# Altium schematic symbol library Capacitors - Ceramic - 01005.SchLib: 571 symbols (part 1 of 13)
Pins are listed as number, name and electrical type; pins without a type are passive.

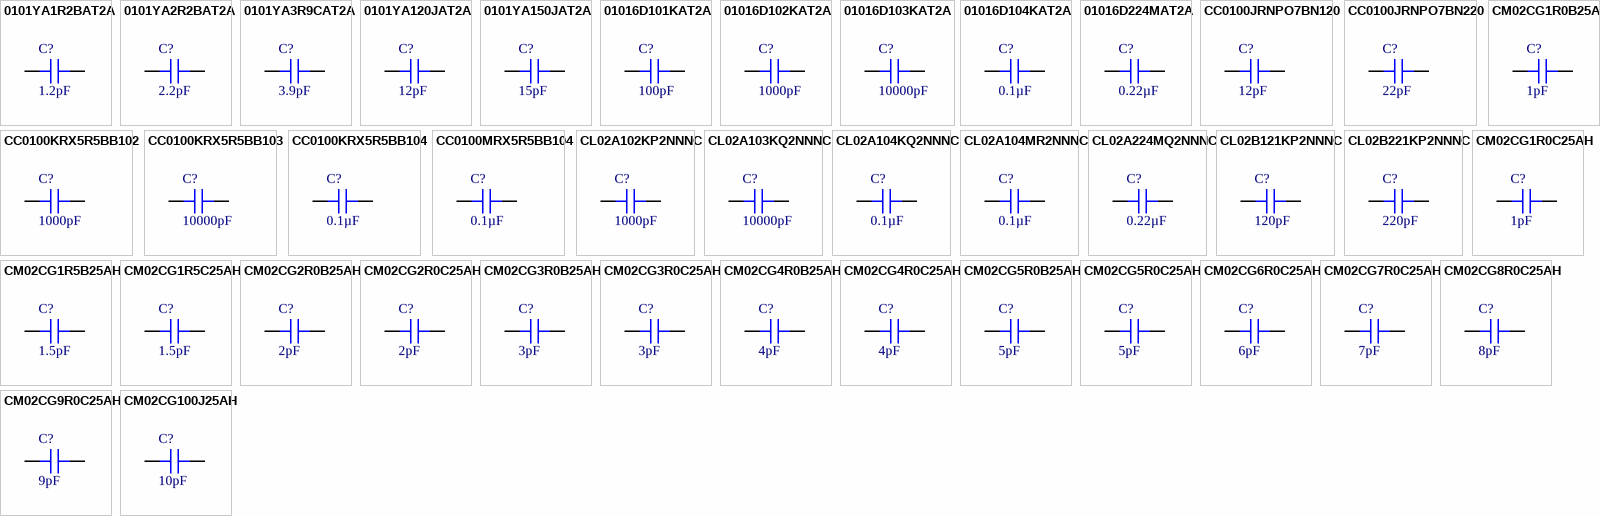
[diagram p0: symbols 0101YA1R2BAT2A to CM02CG100J25AH]

## 0101YA1R2BAT2A
designator C?, comment 1.2pF
CAP CER 1.2PF 16V C0G/NP0 01005; Part Number: 0101YA1R2BAT2A; Manufacturer: AVX Corporation; Temperature Coefficient: C0G, NP0; Tolerance: ±0.1pF; Applications: General Purpose; Capacitance: 1.2pF; ComponentLink1Description: Datasheet; ComponentLink1URL: http://datasheets.avx.com/C0GNP0-Dielectric.pdf; ComponentLink2Description: DigiKey Link; ComponentLink2URL: http://digikey.com/product-detail/en/avx-corporation/0101YA1R2BAT2A/478-6441-1-ND/2521897; Device Package: 01005 (0402 Metric); LastUpdated: 9/2/2020 1:27:43 AM; Lifecycle Status: Active; Minimum Order: 1; Mounting Type: Surface Mount, MLCC; Operating Temperature: -55°C ~ 125°C; Package / Case: 01005 (0402 Metric); Packaging: TapeAndReel; Part Status: Active; Price: 0.08; Series: -; Size / Dimension: 0.016" L x 0.008" W (0.40mm x 0.20mm); Supplier 1: DigiKey; Supplier Part Number 1: 478-6441-1-ND; Thickness (Max): 0.009" (0.22mm); Voltage - Rated: 16V; Value: 1.2pF
footprint CAP 01005_0402
pins: 1, 2

## 0101YA2R2BAT2A
designator C?, comment 2.2pF
CAP CER 2.2PF 16V C0G/NP0 01005; Part Number: 0101YA2R2BAT2A; Manufacturer: AVX Corporation; Temperature Coefficient: C0G, NP0; Tolerance: ±0.1pF; Applications: General Purpose; Capacitance: 2.2pF; ComponentLink1Description: Datasheet; ComponentLink1URL: http://datasheets.avx.com/C0GNP0-Dielectric.pdf; ComponentLink2Description: DigiKey Link; ComponentLink2URL: http://digikey.com/product-detail/en/avx-corporation/0101YA2R2BAT2A/478-6442-1-ND/2521898; Device Package: 01005 (0402 Metric); LastUpdated: 9/2/2020 1:27:42 AM; Lifecycle Status: Active; Minimum Order: 1; Mounting Type: Surface Mount, MLCC; Operating Temperature: -55°C ~ 125°C; Package / Case: 01005 (0402 Metric); Packaging: TapeAndReel; Part Status: Active; Price: 0.08; Series: -; Size / Dimension: 0.016" L x 0.008" W (0.40mm x 0.20mm); Supplier 1: DigiKey; Supplier Part Number 1: 478-6442-1-ND; Thickness (Max): 0.009" (0.22mm); Voltage - Rated: 16V; Value: 2.2pF
footprint CAP 01005_0402
pins: 1, 2

## 0101YA3R9CAT2A
designator C?, comment 3.9pF
CAP CER 3.9PF 16V C0G/NP0 01005; Part Number: 0101YA3R9CAT2A; Manufacturer: AVX Corporation; Temperature Coefficient: C0G, NP0; Tolerance: ±0.25pF; Value: 3.9pF; Applications: General Purpose; Capacitance: 3.9pF; ComponentLink1Description: Datasheet; ComponentLink1URL: http://datasheets.avx.com/C0GNP0-Dielectric.pdf; ComponentLink2Description: DigiKey Link; ComponentLink2URL: http://digikey.com/product-detail/en/avx-corporation/0101YA3R9CAT2A/478-6444-1-ND/2521900; Device Package: 01005 (0402 Metric); LastUpdated: 9/2/2020 1:27:44 AM; Lifecycle Status: Active; Minimum Order: 1; Mounting Type: Surface Mount, MLCC; Operating Temperature: -55°C ~ 125°C; Package / Case: 01005 (0402 Metric); Packaging: TapeAndReel; Part Status: Active; Price: 0.06; Series: -; Size / Dimension: 0.016" L x 0.008" W (0.40mm x 0.20mm); Supplier 1: DigiKey; Supplier Part Number 1: 478-6444-1-ND; Thickness (Max): 0.009" (0.22mm); Voltage - Rated: 16V
footprint CAP 01005_0402
pins: 1, 2

## 0101YA120JAT2A
designator C?, comment 12pF
CAP CER 12PF 16V C0G/NP0 01005; Part Number: 0101YA120JAT2A; Manufacturer: AVX Corporation; Temperature Coefficient: C0G, NP0; Tolerance: ±5%; Value: 12pF; Applications: General Purpose; Capacitance: 12pF; ComponentLink1Description: Datasheet; ComponentLink1URL: http://datasheets.avx.com/C0GNP0-Dielectric.pdf; ComponentLink2Description: DigiKey Link; ComponentLink2URL: http://digikey.com/product-detail/en/avx-corporation/0101YA120JAT2A/478-6439-1-ND/2521895; Device Package: 01005 (0402 Metric); LastUpdated: 9/2/2020 1:27:43 AM; Lifecycle Status: Active; Minimum Order: 1; Mounting Type: Surface Mount, MLCC; Operating Temperature: -55°C ~ 125°C; Package / Case: 01005 (0402 Metric); Packaging: TapeAndReel; Part Status: Active; Price: 0.05; Series: -; Size / Dimension: 0.016" L x 0.008" W (0.40mm x 0.20mm); Supplier 1: DigiKey; Supplier Part Number 1: 478-6439-1-ND; Thickness (Max): 0.009" (0.22mm); Voltage - Rated: 16V
footprint CAP 01005_0402
pins: 1, 2

## 0101YA150JAT2A
designator C?, comment 15pF
CAP CER 15PF 16V C0G/NP0 01005; Part Number: 0101YA150JAT2A; Manufacturer: AVX Corporation; Temperature Coefficient: C0G, NP0; Tolerance: ±5%; Value: 15pF; Applications: General Purpose; Capacitance: 15pF; ComponentLink1Description: Datasheet; ComponentLink1URL: http://datasheets.avx.com/C0GNP0-Dielectric.pdf; ComponentLink2Description: DigiKey Link; ComponentLink2URL: http://digikey.com/product-detail/en/avx-corporation/0101YA150JAT2A/478-6440-1-ND/2521896; Device Package: 01005 (0402 Metric); LastUpdated: 9/2/2020 1:27:43 AM; Lifecycle Status: Active; Minimum Order: 1; Mounting Type: Surface Mount, MLCC; Operating Temperature: -55°C ~ 125°C; Package / Case: 01005 (0402 Metric); Packaging: TapeAndReel; Part Status: Active; Price: 0.04; Series: -; Size / Dimension: 0.016" L x 0.008" W (0.40mm x 0.20mm); Supplier 1: DigiKey; Supplier Part Number 1: 478-6440-1-ND; Thickness (Max): 0.009" (0.22mm); Voltage - Rated: 16V
footprint CAP 01005_0402
pins: 1, 2

## 01016D101KAT2A
designator C?, comment 100pF
CAP CER 100PF 6.3V X5R 01005; Part Number: 01016D101KAT2A; Manufacturer: AVX Corporation; Tolerance: ±10%; Value: 100pF; Applications: General Purpose; Capacitance: 100pF; ComponentLink1Description: Datasheet; ComponentLink1URL: http://datasheets.avx.com/cx5r.pdf; ComponentLink2Description: DigiKey Link; ComponentLink2URL: http://digikey.com/product-detail/en/avx-corporation/01016D101KAT2A/478-6436-1-ND/2521892; Device Package: 01005 (0402 Metric); LastUpdated: 9/2/2020 1:27:43 AM; Lifecycle Status: Active; Minimum Order: 1; Mounting Type: Surface Mount, MLCC; Operating Temperature: -55°C ~ 85°C; Package / Case: 01005 (0402 Metric); Packaging: TapeAndReel; Part Status: Active; Price: 0.04; Series: -; Size / Dimension: 0.016" L x 0.008" W (0.40mm x 0.20mm); Supplier 1: DigiKey; Supplier Part Number 1: 478-6436-1-ND; Temperature Coefficient: X5R; Thickness (Max): 0.009" (0.22mm); Voltage - Rated: 6.3V
footprint CAP 01005_0402
pins: 1, 2

## 01016D102KAT2A
designator C?, comment 1000pF
CAP CER 1000PF 6.3V X5R 01005; Part Number: 01016D102KAT2A; Manufacturer: AVX Corporation; Tolerance: ±10%; Value: 1000pF; Applications: General Purpose; Capacitance: 1000pF; ComponentLink1Description: Datasheet; ComponentLink1URL: http://datasheets.avx.com/cx5r.pdf; ComponentLink2Description: DigiKey Link; ComponentLink2URL: http://digikey.com/product-detail/en/avx-corporation/01016D102KAT2A/478-6437-1-ND/2521893; Device Package: 01005 (0402 Metric); LastUpdated: 9/2/2020 1:27:43 AM; Lifecycle Status: Active; Minimum Order: 1; Mounting Type: Surface Mount, MLCC; Operating Temperature: -55°C ~ 85°C; Package / Case: 01005 (0402 Metric); Packaging: TapeAndReel; Part Status: Active; Price: 0.04; Series: -; Size / Dimension: 0.016" L x 0.008" W (0.40mm x 0.20mm); Supplier 1: DigiKey; Supplier Part Number 1: 478-6437-1-ND; Temperature Coefficient: X5R; Thickness (Max): 0.009" (0.22mm); Voltage - Rated: 6.3V
footprint CAP 01005_0402
pins: 1, 2

## 01016D103KAT2A
designator C?, comment 10000pF
CAP CER 10000PF 6.3V X5R 01005; Part Number: 01016D103KAT2A; Manufacturer: AVX Corporation; Tolerance: ±10%; Value: 10000pF; Applications: General Purpose; Capacitance: 10000pF; ComponentLink1Description: Datasheet; ComponentLink1URL: http://datasheets.avx.com/cx5r.pdf; ComponentLink2Description: DigiKey Link; ComponentLink2URL: http://digikey.com/product-detail/en/avx-corporation/01016D103KAT2A/478-6438-1-ND/2521894; Device Package: 01005 (0402 Metric); LastUpdated: 9/2/2020 1:27:42 AM; Lifecycle Status: Active; Minimum Order: 1; Mounting Type: Surface Mount, MLCC; Operating Temperature: -55°C ~ 85°C; Package / Case: 01005 (0402 Metric); Packaging: TapeAndReel; Part Status: Active; Price: 0.01; Series: -; Size / Dimension: 0.016" L x 0.008" W (0.40mm x 0.20mm); Supplier 1: DigiKey; Supplier Part Number 1: 478-6438-1-ND; Temperature Coefficient: X5R; Thickness (Max): 0.009" (0.22mm); Voltage - Rated: 6.3V
footprint CAP 01005_0402
pins: 1, 2

## 01016D104KAT2A
designator C?, comment 0.1µF
CAP CER 0.1UF 6.3V X5R 01005; Part Number: 01016D104KAT2A; Manufacturer: AVX Corporation; Tolerance: ±10%; Value: 0.1µF; Applications: General Purpose; Capacitance: 0.1µF; ComponentLink1Description: Datasheet; ComponentLink1URL: http://datasheets.avx.com/cx5r.pdf; ComponentLink2Description: DigiKey Link; ComponentLink2URL: http://digikey.com/product-detail/en/avx-corporation/01016D104KAT2A/478-10060-1-ND/6564282; Device Package: 01005 (0402 Metric); LastUpdated: 9/2/2020 1:27:43 AM; Lifecycle Status: Active; Minimum Order: 1; Mounting Type: Surface Mount, MLCC; Operating Temperature: -55°C ~ 85°C; Package / Case: 01005 (0402 Metric); Packaging: TapeAndReel; Part Status: Active; Price: 0.04; Series: -; Size / Dimension: 0.016" L x 0.008" W (0.40mm x 0.20mm); Supplier 1: DigiKey; Supplier Part Number 1: 478-10060-1-ND; Temperature Coefficient: X5R; Thickness (Max): 0.009" (0.22mm); Voltage - Rated: 6.3V
footprint CAP 01005_0402
pins: 1, 2

## 01016D224MAT2A
designator C?, comment 0.22µF
CAP CER 0.22UF 6.3V X5R 01005; Part Number: 01016D224MAT2A; Manufacturer: AVX Corporation; Tolerance: ±20%; Value: 0.22µF; Applications: General Purpose; Capacitance: 0.22µF; ComponentLink1Description: Datasheet; ComponentLink1URL: http://datasheets.avx.com/cx5r.pdf; ComponentLink2Description: DigiKey Link; ComponentLink2URL: http://digikey.com/product-detail/en/avx-corporation/01016D224MAT2A/478-9355-1-ND/4864379; Device Package: 01005 (0402 Metric); LastUpdated: 9/2/2020 1:27:42 AM; Lifecycle Status: Active; Minimum Order: 1; Mounting Type: Surface Mount, MLCC; Operating Temperature: -55°C ~ 85°C; Package / Case: 01005 (0402 Metric); Packaging: TapeAndReel; Part Status: Active; Price: 0.02; Series: -; Size / Dimension: 0.016" L x 0.008" W (0.40mm x 0.20mm); Supplier 1: DigiKey; Supplier Part Number 1: 478-9355-1-ND; Temperature Coefficient: X5R; Thickness (Max): 0.009" (0.22mm); Voltage - Rated: 6.3V
footprint CAP 01005_0402
pins: 1, 2

## CC0100JRNPO7BN120
designator C?, comment 12pF
CAP CER 12PF 16V NPO 01005; Part Number: CC0100JRNPO7BN120; Manufacturer: Yageo; Temperature Coefficient: C0G, NP0; Tolerance: ±5%; Value: 12pF; Applications: General Purpose; Capacitance: 12pF; ComponentLink1Description: Datasheet; ComponentLink1URL: http://www.yageo.com/documents/recent/UPY-NP0X5R_01005_4V-to-25V_V10.pdf; ComponentLink2Description: DigiKey Link; ComponentLink2URL: http://digikey.com/product-detail/en/yageo/CC0100JRNPO7BN120/311-3655-1-ND/8024744; Device Package: 01005 (0402 Metric); LastUpdated: 9/2/2020 1:27:43 AM; Lifecycle Status: Active; Minimum Order: 1; Mounting Type: Surface Mount, MLCC; Operating Temperature: -55°C ~ 125°C; Package / Case: 01005 (0402 Metric); Packaging: TapeAndReel; Part Status: Active; Price: 0.01; Series: CC; Size / Dimension: 0.016" L x 0.008" W (0.40mm x 0.20mm); Supplier 1: DigiKey; Supplier Part Number 1: 311-3655-1-ND; Thickness (Max): 0.009" (0.22mm); Voltage - Rated: 16V
footprint CAP 01005_0402
pins: 1, 2

## CC0100JRNPO7BN220
designator C?, comment 22pF
CAP CER 22PF 16V NPO 01005; Part Number: CC0100JRNPO7BN220; Manufacturer: Yageo; Temperature Coefficient: C0G, NP0; Tolerance: ±5%; Value: 22pF; Applications: General Purpose; Capacitance: 22pF; ComponentLink1Description: Datasheet; ComponentLink1URL: http://www.yageo.com/documents/recent/UPY-NP0X5R_01005_4V-to-25V_V10.pdf; ComponentLink2Description: DigiKey Link; ComponentLink2URL: http://digikey.com/product-detail/en/yageo/CC0100JRNPO7BN220/311-3656-1-ND/8024745; Device Package: 01005 (0402 Metric); LastUpdated: 9/2/2020 1:27:43 AM; Lifecycle Status: Active; Minimum Order: 1; Mounting Type: Surface Mount, MLCC; Operating Temperature: -55°C ~ 125°C; Package / Case: 01005 (0402 Metric); Packaging: TapeAndReel; Part Status: Active; Price: 0.01; Series: CC; Size / Dimension: 0.016" L x 0.008" W (0.40mm x 0.20mm); Supplier 1: DigiKey; Supplier Part Number 1: 311-3656-1-ND; Thickness (Max): 0.009" (0.22mm); Voltage - Rated: 16V
footprint CAP 01005_0402
pins: 1, 2

## CC0100KRX5R5BB102
designator C?, comment 1000pF
CAP CER 1000PF 6.3V X5R 01005; Part Number: CC0100KRX5R5BB102; Manufacturer: Yageo; Tolerance: ±10%; Value: 1000pF; Applications: General Purpose; Capacitance: 1000pF; ComponentLink1Description: Datasheet; ComponentLink1URL: http://www.yageo.com/documents/recent/UPY-NP0X5R_01005_4V-to-25V_V10.pdf; ComponentLink2Description: DigiKey Link; ComponentLink2URL: http://digikey.com/product-detail/en/yageo/CC0100KRX5R5BB102/311-3657-1-ND/8024746; Device Package: 01005 (0402 Metric); LastUpdated: 9/2/2020 1:27:43 AM; Lifecycle Status: Active; Minimum Order: 1; Mounting Type: Surface Mount, MLCC; Operating Temperature: -55°C ~ 85°C; Package / Case: 01005 (0402 Metric); Packaging: TapeAndReel; Part Status: Active; Price: 0.02; Series: CC; Size / Dimension: 0.016" L x 0.008" W (0.40mm x 0.20mm); Supplier 1: DigiKey; Supplier Part Number 1: 311-3657-1-ND; Temperature Coefficient: X5R; Thickness (Max): 0.009" (0.22mm); Voltage - Rated: 6.3V
footprint CAP 01005_0402
pins: 1, 2

## CC0100KRX5R5BB103
designator C?, comment 10000pF
CAP CER 10000PF 6.3V X5R 01005; Part Number: CC0100KRX5R5BB103; Manufacturer: Yageo; Tolerance: ±10%; Value: 10000pF; Applications: General Purpose; Capacitance: 10000pF; ComponentLink1Description: Datasheet; ComponentLink1URL: http://www.yageo.com/documents/recent/UPY-NP0X5R_01005_4V-to-25V_V10.pdf; ComponentLink2Description: DigiKey Link; ComponentLink2URL: http://digikey.com/product-detail/en/yageo/CC0100KRX5R5BB103/311-1574-1-ND/5195476; Device Package: 01005 (0402 Metric); LastUpdated: 9/2/2020 1:27:44 AM; Lifecycle Status: Active; Minimum Order: 1; Mounting Type: Surface Mount, MLCC; Operating Temperature: -55°C ~ 85°C; Package / Case: 01005 (0402 Metric); Packaging: TapeAndReel; Part Status: Active; Price: 0.02; Series: CC; Size / Dimension: 0.016" L x 0.008" W (0.40mm x 0.20mm); Supplier 1: DigiKey; Supplier Part Number 1: 311-1574-1-ND; Temperature Coefficient: X5R; Thickness (Max): 0.009" (0.22mm); Voltage - Rated: 6.3V
footprint CAP 01005_0402
pins: 1, 2

## CC0100KRX5R5BB104
designator C?, comment 0.1µF
CAP CER 0.1UF 6.3V X5R 01005; Part Number: CC0100KRX5R5BB104; Manufacturer: Yageo; Tolerance: ±10%; Value: 0.1µF; Applications: General Purpose; Capacitance: 0.1µF; ComponentLink1Description: Datasheet; ComponentLink1URL: http://www.yageo.com/documents/recent/UPY-NP0X5R_01005_4V-to-25V_V10.pdf; ComponentLink2Description: DigiKey Link; ComponentLink2URL: http://digikey.com/product-detail/en/yageo/CC0100KRX5R5BB104/311-1575-1-ND/5195477; Device Package: 01005 (0402 Metric); LastUpdated: 9/2/2020 1:27:44 AM; Lifecycle Status: Active; Minimum Order: 1; Mounting Type: Surface Mount, MLCC; Operating Temperature: -55°C ~ 85°C; Package / Case: 01005 (0402 Metric); Packaging: TapeAndReel; Part Status: Active; Price: 0.02; Series: CC; Size / Dimension: 0.016" L x 0.008" W (0.40mm x 0.20mm); Supplier 1: DigiKey; Supplier Part Number 1: 311-1575-1-ND; Temperature Coefficient: X5R; Thickness (Max): 0.009" (0.22mm); Voltage - Rated: 6.3V
footprint CAP 01005_0402
pins: 1, 2

## CC0100MRX5R5BB104
designator C?, comment 0.1µF
CAP CER 0.1UF 6.3V X5R 01005; Part Number: CC0100MRX5R5BB104; Manufacturer: Yageo; Tolerance: ±20%; Value: 0.1µF; Applications: General Purpose; Capacitance: 0.1µF; ComponentLink1Description: Datasheet; ComponentLink1URL: http://www.yageo.com/documents/recent/UPY-NP0X5R_01005_4V-to-25V_V10.pdf; ComponentLink2Description: DigiKey Link; ComponentLink2URL: http://digikey.com/product-detail/en/yageo/CC0100MRX5R5BB104/311-1576-1-ND/5195478; Device Package: 01005 (0402 Metric); LastUpdated: 9/2/2020 1:27:43 AM; Lifecycle Status: Active; Minimum Order: 1; Mounting Type: Surface Mount, MLCC; Operating Temperature: -55°C ~ 85°C; Package / Case: 01005 (0402 Metric); Packaging: TapeAndReel; Part Status: Active; Price: 0.02; Series: CC; Size / Dimension: 0.016" L x 0.008" W (0.40mm x 0.20mm); Supplier 1: DigiKey; Supplier Part Number 1: 311-1576-1-ND; Temperature Coefficient: X5R; Thickness (Max): 0.009" (0.22mm); Voltage - Rated: 6.3V
footprint CAP 01005_0402
pins: 1, 2

## CL02A102KP2NNNC
designator C?, comment 1000pF
CAP CER 1000PF 10V X5R 01005; Part Number: CL02A102KP2NNNC; Manufacturer: Samsung Electro-Mechanics; Tolerance: ±10%; Value: 1000pF; Applications: General Purpose; Capacitance: 1000pF; ComponentLink1Description: Datasheet; ComponentLink1URL: http://www.samsungsem.com/kr/support/product-search/mlcc/CL02A102KP2NNNC.jsp; ComponentLink2Description: DigiKey Link; ComponentLink2URL: http://digikey.com/product-detail/en/samsung-electro-mechanics/CL02A102KP2NNNC/1276-1205-1-ND/3889291; Device Package: 01005 (0402 Metric); LastUpdated: 9/2/2020 1:27:44 AM; Lifecycle Status: Active; Minimum Order: 1; Mounting Type: Surface Mount, MLCC; Operating Temperature: -55°C ~ 85°C; Package / Case: 01005 (0402 Metric); Packaging: TapeAndReel; Part Status: Active; Price: 0.02; Series: CL; Size / Dimension: 0.016" L x 0.008" W (0.40mm x 0.20mm); Supplier 1: DigiKey; Supplier Part Number 1: 1276-1205-1-ND; Temperature Coefficient: X5R; Thickness (Max): 0.009" (0.22mm); Voltage - Rated: 10V
footprint CAP 01005_0402
pins: 1, 2

## CL02A103KQ2NNNC
designator C?, comment 10000pF
CAP CER 10000PF 6.3V X5R 01005; Part Number: CL02A103KQ2NNNC; Manufacturer: Samsung Electro-Mechanics; Tolerance: ±10%; Value: 10000pF; Applications: General Purpose; Capacitance: 10000pF; ComponentLink1Description: Datasheet; ComponentLink1URL: http://www.samsungsem.com/kr/support/product-search/mlcc/CL02A103KQ2NNNC.jsp; ComponentLink2Description: DigiKey Link; ComponentLink2URL: http://digikey.com/product-detail/en/samsung-electro-mechanics/CL02A103KQ2NNNC/1276-1208-1-ND/3889294; Device Package: 01005 (0402 Metric); LastUpdated: 9/2/2020 1:27:43 AM; Lifecycle Status: Active; Minimum Order: 1; Mounting Type: Surface Mount, MLCC; Operating Temperature: -55°C ~ 85°C; Package / Case: 01005 (0402 Metric); Packaging: TapeAndReel; Part Status: Active; Price: 0.02; Series: CL; Size / Dimension: 0.016" L x 0.008" W (0.40mm x 0.20mm); Supplier 1: DigiKey; Supplier Part Number 1: 1276-1208-1-ND; Temperature Coefficient: X5R; Thickness (Max): 0.009" (0.22mm); Voltage - Rated: 6.3V
footprint CAP 01005_0402
pins: 1, 2

## CL02A104KQ2NNNC
designator C?, comment 0.1µF
CAP CER 0.1UF 6.3V X5R 01005; Part Number: CL02A104KQ2NNNC; Manufacturer: Samsung Electro-Mechanics; Tolerance: ±10%; Value: 0.1µF; Applications: General Purpose; Capacitance: 0.1µF; ComponentLink1Description: Datasheet; ComponentLink1URL: http://www.samsungsem.com/kr/support/product-search/mlcc/CL02A104KQ2NNNC.jsp; ComponentLink2Description: DigiKey Link; ComponentLink2URL: http://digikey.com/product-detail/en/samsung-electro-mechanics/CL02A104KQ2NNNC/1276-1209-1-ND/3889295; Device Package: 01005 (0402 Metric); LastUpdated: 9/2/2020 1:27:42 AM; Lifecycle Status: Active; Minimum Order: 1; Mounting Type: Surface Mount, MLCC; Operating Temperature: -55°C ~ 85°C; Package / Case: 01005 (0402 Metric); Packaging: TapeAndReel; Part Status: Active; Price: 0.03; Series: CL; Size / Dimension: 0.016" L x 0.008" W (0.40mm x 0.20mm); Supplier 1: DigiKey; Supplier Part Number 1: 1276-1209-1-ND; Temperature Coefficient: X5R; Thickness (Max): 0.009" (0.22mm); Voltage - Rated: 6.3V
footprint CAP 01005_0402
pins: 1, 2

## CL02A104MR2NNNC
designator C?, comment 0.1µF
CAP CER 0.1UF 4V X5R 01005; Part Number: CL02A104MR2NNNC; Manufacturer: Samsung Electro-Mechanics; Tolerance: ±20%; Value: 0.1µF; Applications: General Purpose; Capacitance: 0.1µF; ComponentLink1Description: Datasheet; ComponentLink1URL: http://www.samsungsem.com/kr/support/product-search/mlcc/CL02A104MR2NNNC.jsp; ComponentLink2Description: DigiKey Link; ComponentLink2URL: http://digikey.com/product-detail/en/samsung-electro-mechanics/CL02A104MR2NNNC/1276-1211-1-ND/3889297; Device Package: 01005 (0402 Metric); LastUpdated: 9/2/2020 1:27:42 AM; Lifecycle Status: Active; Minimum Order: 1; Mounting Type: Surface Mount, MLCC; Operating Temperature: -55°C ~ 85°C; Package / Case: 01005 (0402 Metric); Packaging: TapeAndReel; Part Status: Active; Price: 0.03; Series: CL; Size / Dimension: 0.016" L x 0.008" W (0.40mm x 0.20mm); Supplier 1: DigiKey; Supplier Part Number 1: 1276-1211-1-ND; Temperature Coefficient: X5R; Thickness (Max): 0.009" (0.22mm); Voltage - Rated: 4V
footprint CAP 01005_0402
pins: 1, 2

## CL02A224MQ2NNNC
designator C?, comment 0.22µF
CAP CER 0.22UF 6.3V X5R 01005; Part Number: CL02A224MQ2NNNC; Manufacturer: Samsung Electro-Mechanics; Tolerance: ±20%; Value: 0.22µF; Applications: General Purpose; Capacitance: 0.22µF; ComponentLink1Description: Datasheet; ComponentLink1URL: http://www.samsungsem.com/kr/support/product-search/mlcc/CL02A224MQ2NNNC.jsp; ComponentLink2Description: DigiKey Link; ComponentLink2URL: http://digikey.com/product-detail/en/samsung-electro-mechanics/CL02A224MQ2NNNC/1276-6818-1-ND/5961677; Device Package: 01005 (0402 Metric); LastUpdated: 9/2/2020 1:27:43 AM; Lifecycle Status: Active; Minimum Order: 1; Mounting Type: Surface Mount, MLCC; Operating Temperature: -55°C ~ 85°C; Package / Case: 01005 (0402 Metric); Packaging: TapeAndReel; Part Status: Active; Price: 0.03; Series: CL; Size / Dimension: 0.016" L x 0.008" W (0.40mm x 0.20mm); Supplier 1: DigiKey; Supplier Part Number 1: 1276-6818-1-ND; Temperature Coefficient: X5R; Thickness (Max): 0.009" (0.22mm); Voltage - Rated: 6.3V
footprint CAP 01005_0402
pins: 1, 2

## CL02B121KP2NNNC
designator C?, comment 120pF
CAP CER 120PF 10V X7R 01005; Part Number: CL02B121KP2NNNC; Manufacturer: Samsung Electro-Mechanics; Tolerance: ±10%; Value: 120pF; Applications: General Purpose; Capacitance: 120pF; ComponentLink1Description: Datasheet; ComponentLink1URL: http://www.samsungsem.com/kr/support/product-search/mlcc/CL02B121KP2NNNC.jsp; ComponentLink2Description: DigiKey Link; ComponentLink2URL: http://digikey.com/product-detail/en/samsung-electro-mechanics/CL02B121KP2NNNC/1276-1216-1-ND/3889302; Device Package: 01005 (0402 Metric); LastUpdated: 9/2/2020 1:27:42 AM; Lifecycle Status: Active; Minimum Order: 1; Mounting Type: Surface Mount, MLCC; Operating Temperature: -55°C ~ 125°C; Package / Case: 01005 (0402 Metric); Packaging: TapeAndReel; Part Status: Active; Price: 0.02; Series: CL; Size / Dimension: 0.016" L x 0.008" W (0.40mm x 0.20mm); Supplier 1: DigiKey; Supplier Part Number 1: 1276-1216-1-ND; Temperature Coefficient: X7R; Thickness (Max): 0.009" (0.22mm); Voltage - Rated: 10V
footprint CAP 01005_0402
pins: 1, 2

## CL02B221KP2NNNC
designator C?, comment 220pF
CAP CER 220PF 10V X7R 01005; Part Number: CL02B221KP2NNNC; Manufacturer: Samsung Electro-Mechanics; Tolerance: ±10%; Value: 220pF; Applications: General Purpose; Capacitance: 220pF; ComponentLink1Description: Datasheet; ComponentLink1URL: http://www.samsungsem.com/kr/support/product-search/mlcc/CL02B221KP2NNNC.jsp; ComponentLink2Description: DigiKey Link; ComponentLink2URL: http://digikey.com/product-detail/en/samsung-electro-mechanics/CL02B221KP2NNNC/1276-1218-1-ND/3889304; Device Package: 01005 (0402 Metric); LastUpdated: 9/2/2020 1:27:43 AM; Lifecycle Status: Active; Minimum Order: 1; Mounting Type: Surface Mount, MLCC; Operating Temperature: -55°C ~ 125°C; Package / Case: 01005 (0402 Metric); Packaging: TapeAndReel; Part Status: Active; Price: 0.04; Series: CL; Size / Dimension: 0.016" L x 0.008" W (0.40mm x 0.20mm); Supplier 1: DigiKey; Supplier Part Number 1: 1276-1218-1-ND; Temperature Coefficient: X7R; Thickness (Max): 0.009" (0.22mm); Voltage - Rated: 10V
footprint CAP 01005_0402
pins: 1, 2

## CM02CG1R0B25AH
designator C?, comment 1pF
CAP CER 1PF 25V C0G/NP0 01005; Part Number: CM02CG1R0B25AH; Manufacturer: Kyocera International Inc. Electronic Components; Temperature Coefficient: C0G, NP0; Tolerance: ±0.1pF; Value: 1pF; Applications: General Purpose; Capacitance: 1pF; ComponentLink1Description: Datasheet; ComponentLink1URL: https://global.kyocera.com/prdct/electro/product/pdf/cm_e.pdf; ComponentLink2Description: DigiKey Link; ComponentLink2URL: http://digikey.com/product-detail/en/kyocera-international-inc-electronic-components/CM02CG1R0B25AH/1253-CM02CG1R0B25AHCT-ND/11564160; Device Package: 01005 (0402 Metric); LastUpdated: 9/2/2020 1:27:41 AM; Lifecycle Status: Active; Minimum Order: 1; Mounting Type: Surface Mount, MLCC; Operating Temperature: -55°C ~ 125°C; Package / Case: 01005 (0402 Metric); Packaging: TapeAndReel; Part Status: Active; Price: 0.01; Series: CM; Supplier 1: DigiKey; Supplier Part Number 1: 1253-CM02CG1R0B25AHCT-ND; Voltage - Rated: 25V
footprint CAP 01005_0402
pins: 1, 2

## CM02CG1R0C25AH
designator C?, comment 1pF
CAP CER 1PF 25V C0G/NP0 01005; Part Number: CM02CG1R0C25AH; Manufacturer: Kyocera International Inc. Electronic Components; Temperature Coefficient: C0G, NP0; Tolerance: ±0.25pF; Value: 1pF; Applications: General Purpose; Capacitance: 1pF; ComponentLink1Description: Datasheet; ComponentLink1URL: https://global.kyocera.com/prdct/electro/product/pdf/cm_e.pdf; ComponentLink2Description: DigiKey Link; ComponentLink2URL: http://digikey.com/product-detail/en/kyocera-international-inc-electronic-components/CM02CG1R0C25AH/1253-CM02CG1R0C25AHCT-ND/11564018; Device Package: 01005 (0402 Metric); LastUpdated: 9/2/2020 1:27:41 AM; Lifecycle Status: Active; Minimum Order: 1; Mounting Type: Surface Mount, MLCC; Operating Temperature: -55°C ~ 125°C; Package / Case: 01005 (0402 Metric); Packaging: Unknown; Part Status: Active; Price: 0.10; Series: CM; Supplier 1: DigiKey; Supplier Part Number 1: 1253-CM02CG1R0C25AHCT-ND; Voltage - Rated: 25V
footprint CAP 01005_0402
pins: 1, 2

## CM02CG1R5B25AH
designator C?, comment 1.5pF
CAP CER 1.5PF 25V C0G/NP0 01005; Part Number: CM02CG1R5B25AH; Manufacturer: Kyocera International Inc. Electronic Components; Temperature Coefficient: C0G, NP0; Tolerance: ±0.1pF; Value: 1.5pF; Applications: General Purpose; Capacitance: 1.5pF; ComponentLink1Description: Datasheet; ComponentLink1URL: https://global.kyocera.com/prdct/electro/product/pdf/cm_e.pdf; ComponentLink2Description: DigiKey Link; ComponentLink2URL: http://digikey.com/product-detail/en/kyocera-international-inc-electronic-components/CM02CG1R5B25AH/1253-CM02CG1R5B25AHCT-ND/11564021; Device Package: 01005 (0402 Metric); LastUpdated: 9/2/2020 1:27:42 AM; Lifecycle Status: Active; Minimum Order: 1; Mounting Type: Surface Mount, MLCC; Operating Temperature: -55°C ~ 125°C; Package / Case: 01005 (0402 Metric); Packaging: TapeAndReel; Part Status: Active; Price: 0.01; Series: CM; Supplier 1: DigiKey; Supplier Part Number 1: 1253-CM02CG1R5B25AHCT-ND; Voltage - Rated: 25V
footprint CAP 01005_0402
pins: 1, 2

## CM02CG1R5C25AH
designator C?, comment 1.5pF
CAP CER 1.5PF 25V C0G/NP0 01005; Part Number: CM02CG1R5C25AH; Manufacturer: Kyocera International Inc. Electronic Components; Temperature Coefficient: C0G, NP0; Tolerance: ±0.25pF; Value: 1.5pF; Applications: General Purpose; Capacitance: 1.5pF; ComponentLink1Description: Datasheet; ComponentLink1URL: https://global.kyocera.com/prdct/electro/product/pdf/cm_e.pdf; ComponentLink2Description: DigiKey Link; ComponentLink2URL: http://digikey.com/product-detail/en/kyocera-international-inc-electronic-components/CM02CG1R5C25AH/1253-CM02CG1R5C25AHCT-ND/11564034; Device Package: 01005 (0402 Metric); LastUpdated: 9/2/2020 1:27:41 AM; Lifecycle Status: Active; Minimum Order: 1; Mounting Type: Surface Mount, MLCC; Operating Temperature: -55°C ~ 125°C; Package / Case: 01005 (0402 Metric); Packaging: Unknown; Part Status: Active; Price: 0.10; Series: CM; Supplier 1: DigiKey; Supplier Part Number 1: 1253-CM02CG1R5C25AHCT-ND; Voltage - Rated: 25V
footprint CAP 01005_0402
pins: 1, 2

## CM02CG2R0B25AH
designator C?, comment 2pF
CAP CER 2PF 25V C0G/NP0 01005; Part Number: CM02CG2R0B25AH; Manufacturer: Kyocera International Inc. Electronic Components; Temperature Coefficient: C0G, NP0; Tolerance: ±0.1pF; Value: 2pF; Applications: General Purpose; Capacitance: 2pF; ComponentLink1Description: Datasheet; ComponentLink1URL: https://global.kyocera.com/prdct/electro/product/pdf/cm_e.pdf; ComponentLink2Description: DigiKey Link; ComponentLink2URL: http://digikey.com/product-detail/en/kyocera-international-inc-electronic-components/CM02CG2R0B25AH/1253-CM02CG2R0B25AHCT-ND/11564000; Device Package: 01005 (0402 Metric); LastUpdated: 9/2/2020 1:27:42 AM; Lifecycle Status: Active; Minimum Order: 1; Mounting Type: Surface Mount, MLCC; Operating Temperature: -55°C ~ 125°C; Package / Case: 01005 (0402 Metric); Packaging: TapeAndReel; Part Status: Active; Price: 0.01; Series: CM; Supplier 1: DigiKey; Supplier Part Number 1: 1253-CM02CG2R0B25AHCT-ND; Voltage - Rated: 25V
footprint CAP 01005_0402
pins: 1, 2

## CM02CG2R0C25AH
designator C?, comment 2pF
CAP CER 2PF 25V C0G/NP0 01005; Part Number: CM02CG2R0C25AH; Manufacturer: Kyocera International Inc. Electronic Components; Temperature Coefficient: C0G, NP0; Tolerance: ±0.25pF; Value: 2pF; Applications: General Purpose; Capacitance: 2pF; ComponentLink1Description: Datasheet; ComponentLink1URL: https://global.kyocera.com/prdct/electro/product/pdf/cm_e.pdf; ComponentLink2Description: DigiKey Link; ComponentLink2URL: http://digikey.com/product-detail/en/kyocera-international-inc-electronic-components/CM02CG2R0C25AH/1253-CM02CG2R0C25AHCT-ND/11564130; Device Package: 01005 (0402 Metric); LastUpdated: 9/2/2020 1:27:42 AM; Lifecycle Status: Active; Minimum Order: 1; Mounting Type: Surface Mount, MLCC; Operating Temperature: -55°C ~ 125°C; Package / Case: 01005 (0402 Metric); Packaging: Unknown; Part Status: Active; Price: 0.10; Series: CM; Supplier 1: DigiKey; Supplier Part Number 1: 1253-CM02CG2R0C25AHCT-ND; Voltage - Rated: 25V
footprint CAP 01005_0402
pins: 1, 2

## CM02CG3R0B25AH
designator C?, comment 3pF
CAP CER 3PF 25V C0G/NP0 01005; Part Number: CM02CG3R0B25AH; Manufacturer: Kyocera International Inc. Electronic Components; Temperature Coefficient: C0G, NP0; Tolerance: ±0.1pF; Value: 3pF; Applications: General Purpose; Capacitance: 3pF; ComponentLink1Description: Datasheet; ComponentLink1URL: https://global.kyocera.com/prdct/electro/product/pdf/cm_e.pdf; ComponentLink2Description: DigiKey Link; ComponentLink2URL: http://digikey.com/product-detail/en/kyocera-international-inc-electronic-components/CM02CG3R0B25AH/1253-CM02CG3R0B25AHCT-ND/11564128; Device Package: 01005 (0402 Metric); LastUpdated: 9/2/2020 1:27:42 AM; Lifecycle Status: Active; Minimum Order: 1; Mounting Type: Surface Mount, MLCC; Operating Temperature: -55°C ~ 125°C; Package / Case: 01005 (0402 Metric); Packaging: TapeAndReel; Part Status: Active; Price: 0.01; Series: CM; Supplier 1: DigiKey; Supplier Part Number 1: 1253-CM02CG3R0B25AHCT-ND; Voltage - Rated: 25V
footprint CAP 01005_0402
pins: 1, 2

## CM02CG3R0C25AH
designator C?, comment 3pF
CAP CER 3PF 25V C0G/NP0 01005; Part Number: CM02CG3R0C25AH; Manufacturer: Kyocera International Inc. Electronic Components; Temperature Coefficient: C0G, NP0; Tolerance: ±0.25pF; Value: 3pF; Applications: General Purpose; Capacitance: 3pF; ComponentLink1Description: Datasheet; ComponentLink1URL: https://global.kyocera.com/prdct/electro/product/pdf/cm_e.pdf; ComponentLink2Description: DigiKey Link; ComponentLink2URL: http://digikey.com/product-detail/en/kyocera-international-inc-electronic-components/CM02CG3R0C25AH/1253-CM02CG3R0C25AHCT-ND/11564151; Device Package: 01005 (0402 Metric); LastUpdated: 9/2/2020 1:27:42 AM; Lifecycle Status: Active; Minimum Order: 1; Mounting Type: Surface Mount, MLCC; Operating Temperature: -55°C ~ 125°C; Package / Case: 01005 (0402 Metric); Packaging: Unknown; Part Status: Active; Price: 0.10; Series: CM; Supplier 1: DigiKey; Supplier Part Number 1: 1253-CM02CG3R0C25AHCT-ND; Voltage - Rated: 25V
footprint CAP 01005_0402
pins: 1, 2

## CM02CG4R0B25AH
designator C?, comment 4pF
CAP CER 4PF 25V C0G/NP0 01005; Part Number: CM02CG4R0B25AH; Manufacturer: Kyocera International Inc. Electronic Components; Temperature Coefficient: C0G, NP0; Tolerance: ±0.1pF; Value: 4pF; Applications: General Purpose; Capacitance: 4pF; ComponentLink1Description: Datasheet; ComponentLink1URL: https://global.kyocera.com/prdct/electro/product/pdf/cm_e.pdf; ComponentLink2Description: DigiKey Link; ComponentLink2URL: http://digikey.com/product-detail/en/kyocera-international-inc-electronic-components/CM02CG4R0B25AH/1253-CM02CG4R0B25AHCT-ND/11564054; Device Package: 01005 (0402 Metric); LastUpdated: 9/2/2020 1:27:42 AM; Lifecycle Status: Active; Minimum Order: 1; Mounting Type: Surface Mount, MLCC; Operating Temperature: -55°C ~ 125°C; Package / Case: 01005 (0402 Metric); Packaging: TapeAndReel; Part Status: Active; Price: 0.01; Series: CM; Supplier 1: DigiKey; Supplier Part Number 1: 1253-CM02CG4R0B25AHCT-ND; Voltage - Rated: 25V
footprint CAP 01005_0402
pins: 1, 2

## CM02CG4R0C25AH
designator C?, comment 4pF
CAP CER 4PF 25V C0G/NP0 01005; Part Number: CM02CG4R0C25AH; Manufacturer: Kyocera International Inc. Electronic Components; Temperature Coefficient: C0G, NP0; Tolerance: ±0.25pF; Value: 4pF; Applications: General Purpose; Capacitance: 4pF; ComponentLink1Description: Datasheet; ComponentLink1URL: https://global.kyocera.com/prdct/electro/product/pdf/cm_e.pdf; ComponentLink2Description: DigiKey Link; ComponentLink2URL: http://digikey.com/product-detail/en/kyocera-international-inc-electronic-components/CM02CG4R0C25AH/1253-CM02CG4R0C25AHCT-ND/11564028; Device Package: 01005 (0402 Metric); LastUpdated: 9/2/2020 1:27:41 AM; Lifecycle Status: Active; Minimum Order: 1; Mounting Type: Surface Mount, MLCC; Operating Temperature: -55°C ~ 125°C; Package / Case: 01005 (0402 Metric); Packaging: Unknown; Part Status: Active; Price: 0.10; Series: CM; Supplier 1: DigiKey; Supplier Part Number 1: 1253-CM02CG4R0C25AHCT-ND; Voltage - Rated: 25V
footprint CAP 01005_0402
pins: 1, 2

## CM02CG5R0B25AH
designator C?, comment 5pF
CAP CER 5PF 25V C0G/NP0 01005; Part Number: CM02CG5R0B25AH; Manufacturer: Kyocera International Inc. Electronic Components; Temperature Coefficient: C0G, NP0; Tolerance: ±0.1pF; Value: 5pF; Applications: General Purpose; Capacitance: 5pF; ComponentLink1Description: Datasheet; ComponentLink1URL: https://global.kyocera.com/prdct/electro/product/pdf/cm_e.pdf; ComponentLink2Description: DigiKey Link; ComponentLink2URL: http://digikey.com/product-detail/en/kyocera-international-inc-electronic-components/CM02CG5R0B25AH/1253-CM02CG5R0B25AHCT-ND/11564009; Device Package: 01005 (0402 Metric); LastUpdated: 9/2/2020 1:27:42 AM; Lifecycle Status: Active; Minimum Order: 1; Mounting Type: Surface Mount, MLCC; Operating Temperature: -55°C ~ 125°C; Package / Case: 01005 (0402 Metric); Packaging: TapeAndReel; Part Status: Active; Price: 0.01; Series: CM; Supplier 1: DigiKey; Supplier Part Number 1: 1253-CM02CG5R0B25AHCT-ND; Voltage - Rated: 25V
footprint CAP 01005_0402
pins: 1, 2

## CM02CG5R0C25AH
designator C?, comment 5pF
CAP CER 5PF 25V C0G/NP0 01005; Part Number: CM02CG5R0C25AH; Manufacturer: Kyocera International Inc. Electronic Components; Temperature Coefficient: C0G, NP0; Tolerance: ±0.25pF; Value: 5pF; Applications: General Purpose; Capacitance: 5pF; ComponentLink1Description: Datasheet; ComponentLink1URL: https://global.kyocera.com/prdct/electro/product/pdf/cm_e.pdf; ComponentLink2Description: DigiKey Link; ComponentLink2URL: http://digikey.com/product-detail/en/kyocera-international-inc-electronic-components/CM02CG5R0C25AH/1253-CM02CG5R0C25AHCT-ND/11564076; Device Package: 01005 (0402 Metric); LastUpdated: 9/2/2020 1:27:42 AM; Lifecycle Status: Active; Minimum Order: 1; Mounting Type: Surface Mount, MLCC; Operating Temperature: -55°C ~ 125°C; Package / Case: 01005 (0402 Metric); Packaging: Unknown; Part Status: Active; Price: 0.10; Series: CM; Supplier 1: DigiKey; Supplier Part Number 1: 1253-CM02CG5R0C25AHCT-ND; Voltage - Rated: 25V
footprint CAP 01005_0402
pins: 1, 2

## CM02CG6R0C25AH
designator C?, comment 6pF
CAP CER 6PF 25V C0G/NP0 01005; Part Number: CM02CG6R0C25AH; Manufacturer: Kyocera International Inc. Electronic Components; Temperature Coefficient: C0G, NP0; Tolerance: ±0.25pF; Value: 6pF; Applications: General Purpose; Capacitance: 6pF; ComponentLink1Description: Datasheet; ComponentLink1URL: https://global.kyocera.com/prdct/electro/product/pdf/cm_e.pdf; ComponentLink2Description: DigiKey Link; ComponentLink2URL: http://digikey.com/product-detail/en/kyocera-international-inc-electronic-components/CM02CG6R0C25AH/1253-CM02CG6R0C25AHCT-ND/11564138; Device Package: 01005 (0402 Metric); LastUpdated: 9/2/2020 1:27:42 AM; Lifecycle Status: Active; Minimum Order: 1; Mounting Type: Surface Mount, MLCC; Operating Temperature: -55°C ~ 125°C; Package / Case: 01005 (0402 Metric); Packaging: TapeAndReel; Part Status: Active; Price: 0.01; Series: CM; Supplier 1: DigiKey; Supplier Part Number 1: 1253-CM02CG6R0C25AHCT-ND; Voltage - Rated: 25V
footprint CAP 01005_0402
pins: 1, 2

## CM02CG7R0C25AH
designator C?, comment 7pF
CAP CER 7PF 25V C0G/NP0 01005; Part Number: CM02CG7R0C25AH; Manufacturer: Kyocera International Inc. Electronic Components; Temperature Coefficient: C0G, NP0; Tolerance: ±0.25pF; Value: 7pF; Applications: General Purpose; Capacitance: 7pF; ComponentLink1Description: Datasheet; ComponentLink1URL: https://global.kyocera.com/prdct/electro/product/pdf/cm_e.pdf; ComponentLink2Description: DigiKey Link; ComponentLink2URL: http://digikey.com/product-detail/en/kyocera-international-inc-electronic-components/CM02CG7R0C25AH/1253-CM02CG7R0C25AHCT-ND/11563980; Device Package: 01005 (0402 Metric); LastUpdated: 9/2/2020 1:27:42 AM; Lifecycle Status: Active; Minimum Order: 1; Mounting Type: Surface Mount, MLCC; Operating Temperature: -55°C ~ 125°C; Package / Case: 01005 (0402 Metric); Packaging: TapeAndReel; Part Status: Active; Price: 0.01; Series: CM; Supplier 1: DigiKey; Supplier Part Number 1: 1253-CM02CG7R0C25AHCT-ND; Voltage - Rated: 25V
footprint CAP 01005_0402
pins: 1, 2

## CM02CG8R0C25AH
designator C?, comment 8pF
CAP CER 8PF 25V C0G/NP0 01005; Part Number: CM02CG8R0C25AH; Manufacturer: Kyocera International Inc. Electronic Components; Temperature Coefficient: C0G, NP0; Tolerance: ±0.25pF; Value: 8pF; Applications: General Purpose; Capacitance: 8pF; ComponentLink1Description: Datasheet; ComponentLink1URL: https://global.kyocera.com/prdct/electro/product/pdf/cm_e.pdf; ComponentLink2Description: DigiKey Link; ComponentLink2URL: http://digikey.com/product-detail/en/kyocera-international-inc-electronic-components/CM02CG8R0C25AH/1253-CM02CG8R0C25AHCT-ND/11564050; Device Package: 01005 (0402 Metric); LastUpdated: 9/2/2020 1:27:42 AM; Lifecycle Status: Active; Minimum Order: 1; Mounting Type: Surface Mount, MLCC; Operating Temperature: -55°C ~ 125°C; Package / Case: 01005 (0402 Metric); Packaging: TapeAndReel; Part Status: Active; Price: 0.01; Series: CM; Supplier 1: DigiKey; Supplier Part Number 1: 1253-CM02CG8R0C25AHCT-ND; Voltage - Rated: 25V
footprint CAP 01005_0402
pins: 1, 2

## CM02CG9R0C25AH
designator C?, comment 9pF
CAP CER 9PF 25V C0G/NP0 01005; Part Number: CM02CG9R0C25AH; Manufacturer: Kyocera International Inc. Electronic Components; Temperature Coefficient: C0G, NP0; Tolerance: ±0.25pF; Value: 9pF; Applications: General Purpose; Capacitance: 9pF; ComponentLink1Description: Datasheet; ComponentLink1URL: https://global.kyocera.com/prdct/electro/product/pdf/cm_e.pdf; ComponentLink2Description: DigiKey Link; ComponentLink2URL: http://digikey.com/product-detail/en/kyocera-international-inc-electronic-components/CM02CG9R0C25AH/1253-CM02CG9R0C25AHCT-ND/11564019; Device Package: 01005 (0402 Metric); LastUpdated: 9/2/2020 1:27:42 AM; Lifecycle Status: Active; Minimum Order: 1; Mounting Type: Surface Mount, MLCC; Operating Temperature: -55°C ~ 125°C; Package / Case: 01005 (0402 Metric); Packaging: TapeAndReel; Part Status: Active; Price: 0.01; Series: CM; Supplier 1: DigiKey; Supplier Part Number 1: 1253-CM02CG9R0C25AHCT-ND; Voltage - Rated: 25V
footprint CAP 01005_0402
pins: 1, 2

## CM02CG100J25AH
designator C?, comment 10pF
CAP CER 10PF 25V C0G/NP0 01005; Part Number: CM02CG100J25AH; Manufacturer: Kyocera International Inc. Electronic Components; Temperature Coefficient: C0G, NP0; Tolerance: ±5%; Value: 10pF; Applications: General Purpose; Capacitance: 10pF; ComponentLink1Description: Datasheet; ComponentLink1URL: https://global.kyocera.com/prdct/electro/product/pdf/cm_e.pdf; ComponentLink2Description: DigiKey Link; ComponentLink2URL: http://digikey.com/product-detail/en/kyocera-international-inc-electronic-components/CM02CG100J25AH/1253-CM02CG100J25AHCT-ND/11564110; Device Package: 01005 (0402 Metric); LastUpdated: 9/2/2020 1:27:42 AM; Lifecycle Status: Active; Minimum Order: 1; Mounting Type: Surface Mount, MLCC; Operating Temperature: -55°C ~ 125°C; Package / Case: 01005 (0402 Metric); Packaging: Unknown; Part Status: Active; Price: 0.10; Series: CM; Supplier 1: DigiKey; Supplier Part Number 1: 1253-CM02CG100J25AHCT-ND; Voltage - Rated: 25V
footprint CAP 01005_0402
pins: 1, 2

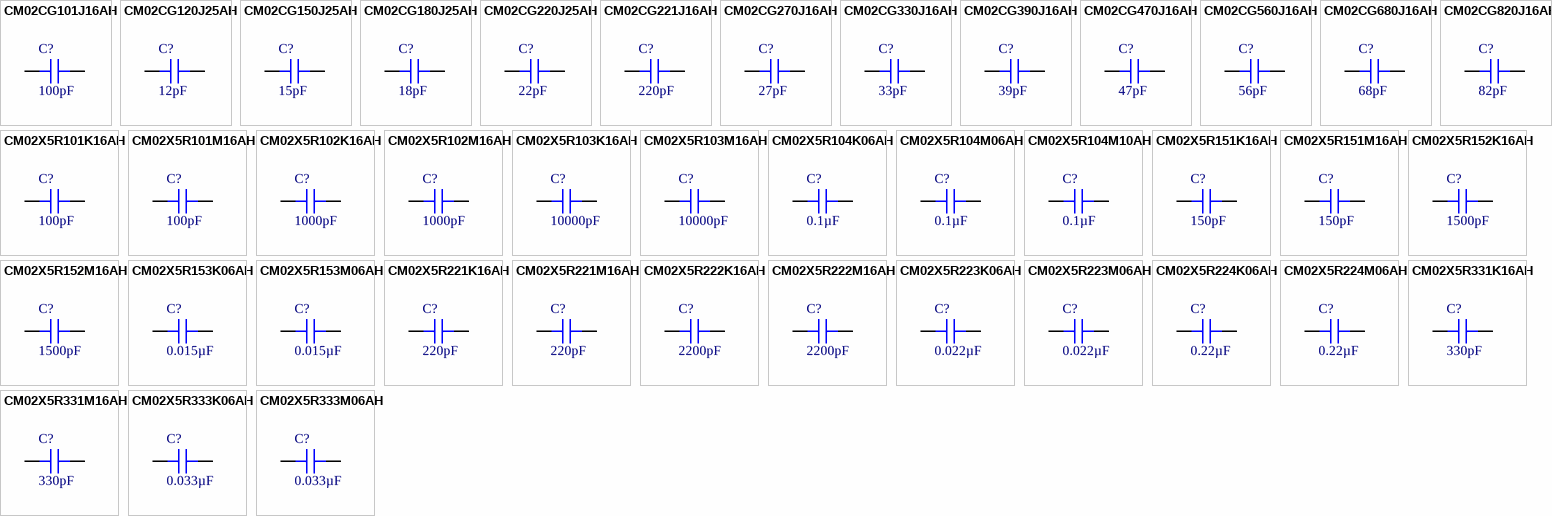
[diagram p1: symbols CM02CG101J16AH to CM02X5R333M06AH]

## CM02CG101J16AH
designator C?, comment 100pF
CAP CER 100PF 16V C0G/NP0 01005; Part Number: CM02CG101J16AH; Manufacturer: Kyocera International Inc. Electronic Components; Temperature Coefficient: C0G, NP0; Tolerance: ±5%; Value: 100pF; Applications: General Purpose; Capacitance: 100pF; ComponentLink1Description: Datasheet; ComponentLink1URL: https://global.kyocera.com/prdct/electro/product/pdf/cm_e.pdf; ComponentLink2Description: DigiKey Link; ComponentLink2URL: http://digikey.com/product-detail/en/kyocera-international-inc-electronic-components/CM02CG101J16AH/1253-CM02CG101J16AHCT-ND/11564093; Device Package: 01005 (0402 Metric); LastUpdated: 9/2/2020 1:27:42 AM; Lifecycle Status: Active; Minimum Order: 1; Mounting Type: Surface Mount, MLCC; Operating Temperature: -55°C ~ 125°C; Package / Case: 01005 (0402 Metric); Packaging: Unknown; Part Status: Active; Price: 0.10; Series: CM; Supplier 1: DigiKey; Supplier Part Number 1: 1253-CM02CG101J16AHCT-ND; Voltage - Rated: 16V
footprint CAP 01005_0402
pins: 1, 2

## CM02CG120J25AH
designator C?, comment 12pF
CAP CER 12PF 25V C0G/NP0 01005; Part Number: CM02CG120J25AH; Manufacturer: Kyocera International Inc. Electronic Components; Temperature Coefficient: C0G, NP0; Tolerance: ±5%; Value: 12pF; Applications: General Purpose; Capacitance: 12pF; ComponentLink1Description: Datasheet; ComponentLink1URL: https://global.kyocera.com/prdct/electro/product/pdf/cm_e.pdf; ComponentLink2Description: DigiKey Link; ComponentLink2URL: http://digikey.com/product-detail/en/kyocera-international-inc-electronic-components/CM02CG120J25AH/1253-CM02CG120J25AHCT-ND/11564144; Device Package: 01005 (0402 Metric); LastUpdated: 9/2/2020 1:27:42 AM; Lifecycle Status: Active; Minimum Order: 1; Mounting Type: Surface Mount, MLCC; Operating Temperature: -55°C ~ 125°C; Package / Case: 01005 (0402 Metric); Packaging: Unknown; Part Status: Active; Price: 0.10; Series: CM; Supplier 1: DigiKey; Supplier Part Number 1: 1253-CM02CG120J25AHCT-ND; Voltage - Rated: 25V
footprint CAP 01005_0402
pins: 1, 2

## CM02CG150J25AH
designator C?, comment 15pF
CAP CER 15PF 25V C0G/NP0 01005; Part Number: CM02CG150J25AH; Manufacturer: Kyocera International Inc. Electronic Components; Temperature Coefficient: C0G, NP0; Tolerance: ±5%; Value: 15pF; Applications: General Purpose; Capacitance: 15pF; ComponentLink1Description: Datasheet; ComponentLink1URL: https://global.kyocera.com/prdct/electro/product/pdf/cm_e.pdf; ComponentLink2Description: DigiKey Link; ComponentLink2URL: http://digikey.com/product-detail/en/kyocera-international-inc-electronic-components/CM02CG150J25AH/1253-CM02CG150J25AHCT-ND/11563995; Device Package: 01005 (0402 Metric); LastUpdated: 9/2/2020 1:27:41 AM; Lifecycle Status: Active; Minimum Order: 1; Mounting Type: Surface Mount, MLCC; Operating Temperature: -55°C ~ 125°C; Package / Case: 01005 (0402 Metric); Packaging: Unknown; Part Status: Active; Price: 0.10; Series: CM; Supplier 1: DigiKey; Supplier Part Number 1: 1253-CM02CG150J25AHCT-ND; Voltage - Rated: 25V
footprint CAP 01005_0402
pins: 1, 2

## CM02CG180J25AH
designator C?, comment 18pF
CAP CER 18PF 25V C0G/NP0 01005; Part Number: CM02CG180J25AH; Manufacturer: Kyocera International Inc. Electronic Components; Temperature Coefficient: C0G, NP0; Tolerance: ±5%; Value: 18pF; Applications: General Purpose; Capacitance: 18pF; ComponentLink1Description: Datasheet; ComponentLink1URL: https://global.kyocera.com/prdct/electro/product/pdf/cm_e.pdf; ComponentLink2Description: DigiKey Link; ComponentLink2URL: http://digikey.com/product-detail/en/kyocera-international-inc-electronic-components/CM02CG180J25AH/1253-CM02CG180J25AHCT-ND/11564041; Device Package: 01005 (0402 Metric); LastUpdated: 9/2/2020 1:27:41 AM; Lifecycle Status: Active; Minimum Order: 1; Mounting Type: Surface Mount, MLCC; Operating Temperature: -55°C ~ 125°C; Package / Case: 01005 (0402 Metric); Packaging: Unknown; Part Status: Active; Price: 0.10; Series: CM; Supplier 1: DigiKey; Supplier Part Number 1: 1253-CM02CG180J25AHCT-ND; Voltage - Rated: 25V
footprint CAP 01005_0402
pins: 1, 2

## CM02CG220J25AH
designator C?, comment 22pF
CAP CER 22PF 25V C0G/NP0 01005; Part Number: CM02CG220J25AH; Manufacturer: Kyocera International Inc. Electronic Components; Temperature Coefficient: C0G, NP0; Tolerance: ±5%; Value: 22pF; Applications: General Purpose; Capacitance: 22pF; ComponentLink1Description: Datasheet; ComponentLink1URL: https://global.kyocera.com/prdct/electro/product/pdf/cm_e.pdf; ComponentLink2Description: DigiKey Link; ComponentLink2URL: http://digikey.com/product-detail/en/kyocera-international-inc-electronic-components/CM02CG220J25AH/1253-CM02CG220J25AHCT-ND/11564012; Device Package: 01005 (0402 Metric); LastUpdated: 9/2/2020 1:27:41 AM; Lifecycle Status: Active; Minimum Order: 1; Mounting Type: Surface Mount, MLCC; Operating Temperature: -55°C ~ 125°C; Package / Case: 01005 (0402 Metric); Packaging: Unknown; Part Status: Active; Price: 0.10; Series: CM; Supplier 1: DigiKey; Supplier Part Number 1: 1253-CM02CG220J25AHCT-ND; Voltage - Rated: 25V
footprint CAP 01005_0402
pins: 1, 2

## CM02CG221J16AH
designator C?, comment 220pF
CAP CER 220PF 16V C0G/NP0 01005; Part Number: CM02CG221J16AH; Manufacturer: Kyocera International Inc. Electronic Components; Temperature Coefficient: C0G, NP0; Tolerance: ±5%; Value: 220pF; Applications: General Purpose; Capacitance: 220pF; ComponentLink1Description: Datasheet; ComponentLink1URL: https://global.kyocera.com/prdct/electro/product/pdf/cm_e.pdf; ComponentLink2Description: DigiKey Link; ComponentLink2URL: http://digikey.com/product-detail/en/kyocera-international-inc-electronic-components/CM02CG221J16AH/1253-CM02CG221J16AHCT-ND/11564141; Device Package: 01005 (0402 Metric); LastUpdated: 9/2/2020 1:27:42 AM; Lifecycle Status: Active; Minimum Order: 1; Mounting Type: Surface Mount, MLCC; Operating Temperature: -55°C ~ 125°C; Package / Case: 01005 (0402 Metric); Packaging: TapeAndReel; Part Status: Active; Price: 0.01; Series: CM; Supplier 1: DigiKey; Supplier Part Number 1: 1253-CM02CG221J16AHCT-ND; Voltage - Rated: 16V
footprint CAP 01005_0402
pins: 1, 2

## CM02CG270J16AH
designator C?, comment 27pF
CAP CER 27PF 16V C0G/NP0 01005; Part Number: CM02CG270J16AH; Manufacturer: Kyocera International Inc. Electronic Components; Temperature Coefficient: C0G, NP0; Tolerance: ±5%; Value: 27pF; Applications: General Purpose; Capacitance: 27pF; ComponentLink1Description: Datasheet; ComponentLink1URL: https://global.kyocera.com/prdct/electro/product/pdf/cm_e.pdf; ComponentLink2Description: DigiKey Link; ComponentLink2URL: http://digikey.com/product-detail/en/kyocera-international-inc-electronic-components/CM02CG270J16AH/1253-CM02CG270J16AHCT-ND/11564078; Device Package: 01005 (0402 Metric); LastUpdated: 9/2/2020 1:27:42 AM; Lifecycle Status: Active; Minimum Order: 1; Mounting Type: Surface Mount, MLCC; Operating Temperature: -55°C ~ 125°C; Package / Case: 01005 (0402 Metric); Packaging: Unknown; Part Status: Active; Price: 0.10; Series: CM; Supplier 1: DigiKey; Supplier Part Number 1: 1253-CM02CG270J16AHCT-ND; Voltage - Rated: 16V
footprint CAP 01005_0402
pins: 1, 2

## CM02CG330J16AH
designator C?, comment 33pF
CAP CER 33PF 16V C0G/NP0 01005; Part Number: CM02CG330J16AH; Manufacturer: Kyocera International Inc. Electronic Components; Temperature Coefficient: C0G, NP0; Tolerance: ±5%; Value: 33pF; Applications: General Purpose; Capacitance: 33pF; ComponentLink1Description: Datasheet; ComponentLink1URL: https://global.kyocera.com/prdct/electro/product/pdf/cm_e.pdf; ComponentLink2Description: DigiKey Link; ComponentLink2URL: http://digikey.com/product-detail/en/kyocera-international-inc-electronic-components/CM02CG330J16AH/1253-CM02CG330J16AHCT-ND/11563987; Device Package: 01005 (0402 Metric); LastUpdated: 9/2/2020 1:27:41 AM; Lifecycle Status: Active; Minimum Order: 1; Mounting Type: Surface Mount, MLCC; Operating Temperature: -55°C ~ 125°C; Package / Case: 01005 (0402 Metric); Packaging: Unknown; Part Status: Active; Price: 0.10; Series: CM; Supplier 1: DigiKey; Supplier Part Number 1: 1253-CM02CG330J16AHCT-ND; Voltage - Rated: 16V
footprint CAP 01005_0402
pins: 1, 2